# Altium schematic symbol library INDUCTOR_BLM18KG121TZ1D.SchLib: 1 symbol
Pins are listed as number, name and electrical type; pins without a type are passive.

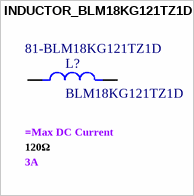
[diagram p0: symbol INDUCTOR_BLM18KG121TZ1D]

## INDUCTOR_BLM18KG121TZ1D
designator L?, comment BLM18KG121TZ1D  .RMS Current (Irms): 3A  .Value: 120Ω  Supplier Part Number 1: 81-BLM18KG121TZ1D
Ferrite Beads Multi-Layer Power 120Ohm 25% 100MHz 3A 0.03Ohm DCR 0603 T/R Automotive AEC-Q200; Manufacturer: Murata; Current Rating: 1.9A; DC Resistance (DCR): 30mΩ; Number of Circuits: 1; Supplier 1: Mouser; Manufacturer Part Number: BLM18KG121TZ1D; RoHS: Compliant; Category: Ferrite Beads and Chips; Stock 1: 36755; Pricing 1: 1=0,1, 10=0,064, 50=0,05, 100=0,045, 1000=0,027, 10000=0,02 (USD); Case/Package: 0603; Contact Plating: Tin; Core Material: Ferrite; Height: 600µm; Impedance: 120Ω; Length: 1.6mm; Lifecycle Status: Production; Max Operating Temperature: 125°C; Min Operating Temperature: -55°C; Number of Terminals: 2; REACH SVHC: Yes; Resistance: 30mΩ; RMS Current (Irms): 3A; Schedule B: 8504500000, 8504500000|8504500000|8504500000|8504500000|8504500000; Series Resistance: 30mΩ; Test Frequency: 100MHz; Tolerance: 25%; Width: 800µm; ComponentLink1URL: https://datasheet.octopart.com:443/BLM18KG121TZ1D-Murata-datasheet-180806584.pdf?src-supplier=IHS; ComponentLink1Description: https://datasheet.octopart.com:443/BLM18KG121TZ1D-Murata-datasheet-180806584.pdf?src-supplier=IHS; ComponentLink2URL: https://datasheet.octopart.com:443/BLM18KG121TZ1D-Murata-datasheet-141273646.pdf?src-supplier=element14+APAC; ComponentLink2Description: https://datasheet.octopart.com:443/BLM18KG121TZ1D-Murata-datasheet-141273646.pdf?src-supplier=element14+APAC; ComponentLink3URL: https://datasheet.octopart.com:443/BLM18KG121TZ1D-Murata-datasheet-166171476.pdf?src-supplier=TME; ComponentLink3Description: https://datasheet.octopart.com:443/BLM18KG121TZ1D-Murata-datasheet-166171476.pdf?src-supplier=TME; ComponentLink4URL: https://datasheet.octopart.com:443/BLM18KG121TZ1D-Murata-datasheet-138707099.pdf?src-supplier=Ciiva; ComponentLink4Description: https://datasheet.octopart.com:443/BLM18KG121TZ1D-Murata-datasheet-138707099.pdf?src-supplier=Ciiva; ComponentLink5URL: http://sigma.octopart.com:80/reach_statement/Murata-company-16.pdf?src-supplier=Compliance+Statements; ComponentLink5Description: http://sigma.octopart.com:80/reach_statement/Murata-company-16.pdf?src-supplier=Compliance+Statements; .Max DC Current: =Max DC Current
footprint BLM18KG121TZ1D (Chip Inductor, 2-Leads, Body 1,60x0,80mm, IPC Medium Density)
pins: 1, 2